# Altium footprint library passive.PcbLib: 20 footprints (part 1 of 2)
Each footprint in its own frame and in the unit in brackets; x right, y up, seen from the top. Pads: shape width x height; smd on the part's side, far side on the other; paste and mask are expansions set on the pad; w line width, h text height; cw(c..) or ccw(c..) is an arc to the next point about the centre after c.
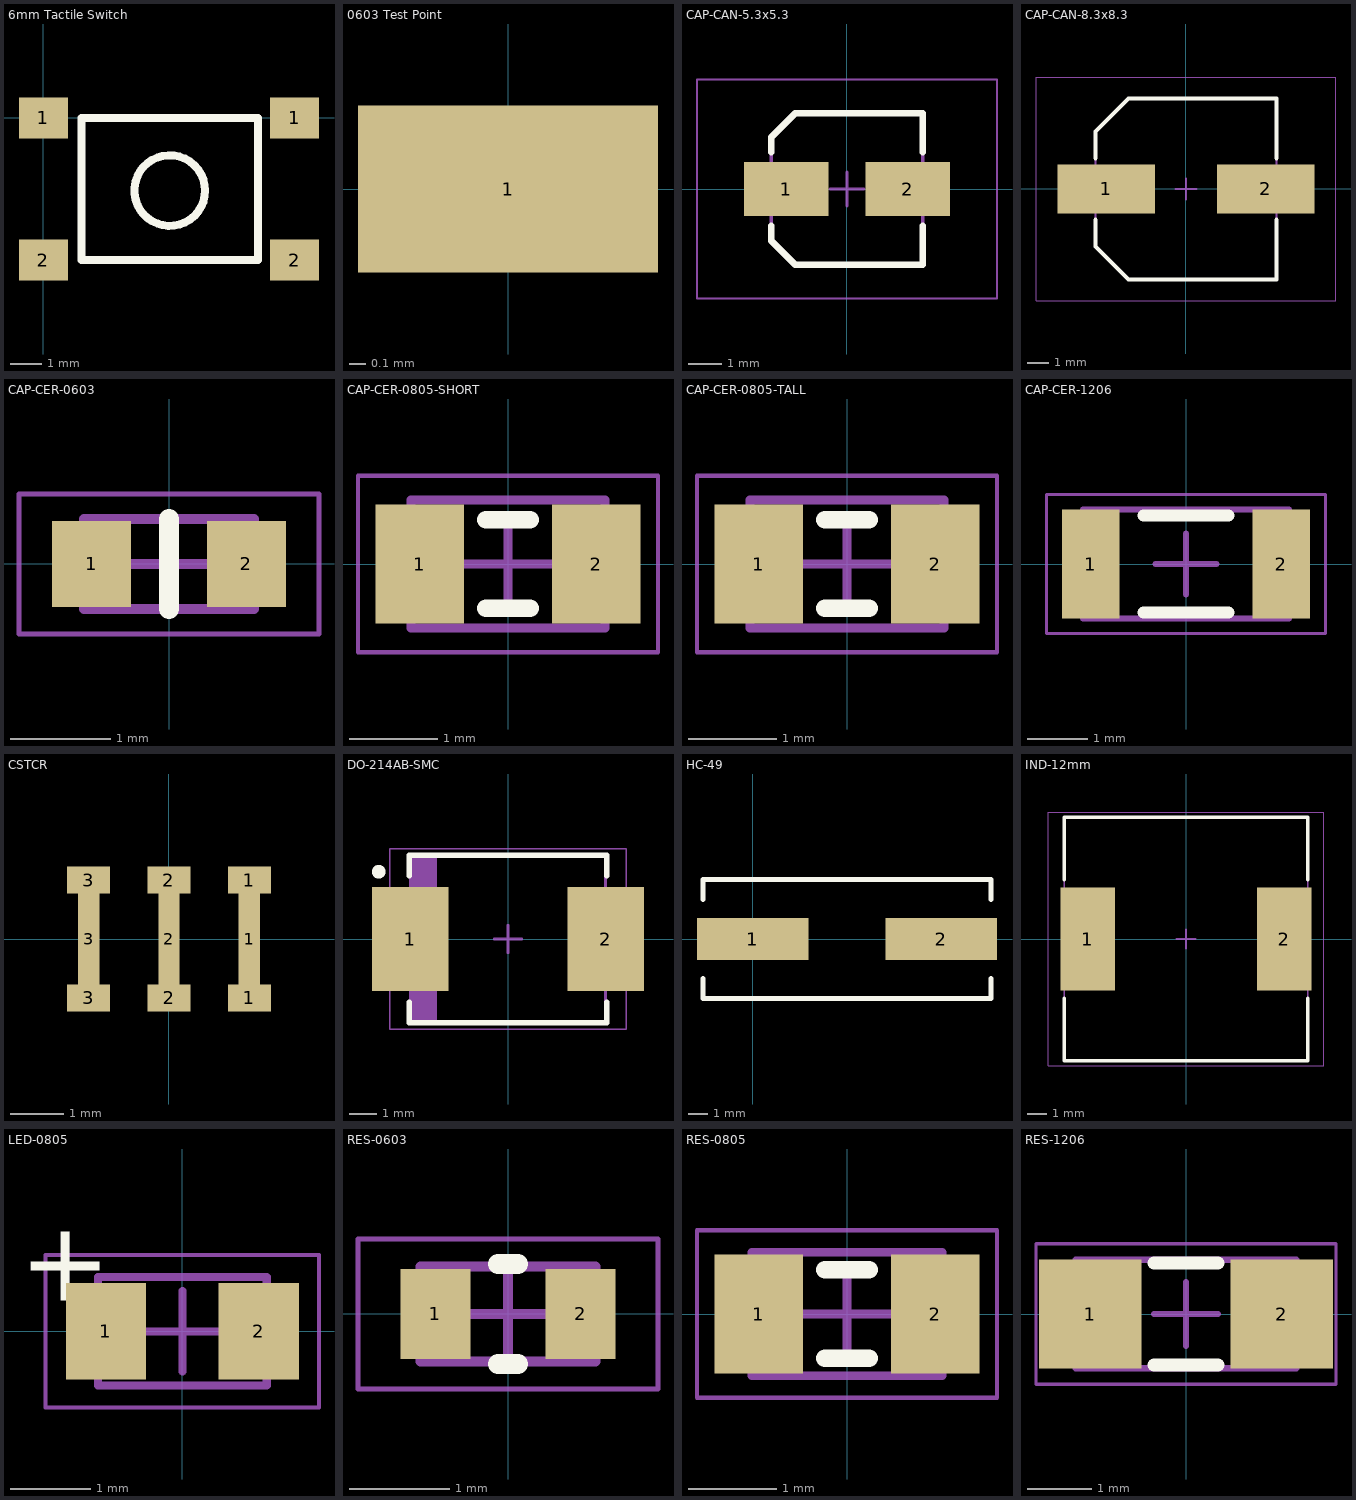
[diagram p0: the footprints below, top view; thin cyan lines are the x and y axes]

## 6mm Tactile Switch [mm]
height 4.3
pads (4):
  rect 1.55x1.3 smd: 1(0,0) 1(7.95,0) 2(0,-4.5) 2(7.95,-4.5)
Top Overlay:
  circle w0.254: c4,-2.3 r1.118
  lines w0.254: 1.2,-4.5 1.2,0 6.8,0 6.8,-4.5 1.2,-4.5
3D body "Tact Switch SMD 6x6mm.stp": height 4.3, standoff 0, extent -0.5,-5.4 8.5,0.8

## 0603 Test Point [mm]
pads (1):
  rect 1.8x1 smd: 1(0,0)
3D body "RCU (0603).stp": height 1.16, standoff 0, extent -0.8,-0.45 0.8,0.45

## CAP-CAN-5.3x5.3 [mm] "Aluminum Electrolytic Capacitor, Body 4.30x4.30x5.50mm, IPC Low Density"
height 5.5
pads (2):
  rect 2.5x1.6 smd: 1(-1.8,0) 2(1.8,0)
Top Overlay:
  lines w0.2: -2.25,-1.1 -2.25,-1.525 -1.525,-2.25 2.25,-2.25 2.25,-1.1 ; -2.25,1.1 -2.25,1.525 -1.525,2.25 2.25,2.25 2.25,1.1
Mechanical 13:
  lines w0.1: -2.25,-1.525 -1.525,-2.25 2.25,-2.25 2.25,2.25 -1.525,2.25 -2.25,1.525 -2.25,-1.525
Mechanical 15:
  lines w0.05: -4.45,-3.25 -4.45,3.25 4.45,3.25 4.45,-3.25 -4.45,-3.25
  lines w0.1: -0.5,0 0.5,0 ; 0,-0.5 0,0.5
3D body "CAPAE5043X55M.step": height 5.5, standoff 0, extent -2.475,-2.25 2.475,2.25

## CAP-CAN-8.3x8.3 [mm] "Aluminum Electrolytic Capacitor, Body 8.30x8.30x10.50mm, IPC Low Density"
height 10.5
pads (2):
  rect 4.6x2.3 smd: 1(-3.75,0) 2(3.75,0)
Top Overlay:
  lines w0.2: -4.25,-1.45 -4.25,-2.7 -2.7,-4.25 4.25,-4.25 4.25,-1.45 ; -4.25,1.45 -4.25,2.7 -2.7,4.25 4.25,4.25 4.25,1.45
Mechanical 13:
  lines w0.1: -4.25,-2.7 -4.25,2.7 -2.7,4.25 4.25,4.25 4.25,-4.25 -2.7,-4.25 -4.25,-2.7
Mechanical 15:
  lines w0.05: -7.05,-5.25 7.05,-5.25 7.05,5.25 -7.05,5.25 -7.05,-5.25
  lines w0.1: -0.5,0 0.5,0 ; 0,-0.5 0,0.5
3D body "CAPAE9983X105M.step": height 10.5, standoff 0, extent -4.95,-4.25 4.95,4.25

## CAP-CER-0603 [mm] "Chip Capacitor, 2-Leads, Body 1.60x0.80mm, IPC Medium Density"
height 0.9
pads (2):
  rect 0.79x0.86 smd: 1(-0.775,0) 2(0.775,0)
Top Overlay:
  lines w0.2: 0,-0.45 0,0.45
Mechanical 13:
  lines w0.1: -0.85,-0.45 0.85,-0.45 0.85,0.45 -0.85,0.45 -0.85,-0.45
Mechanical 15:
  lines w0.05: -1.5,-0.7 1.5,-0.7 1.5,0.7 -1.5,0.7 -1.5,-0.7
  lines w0.1: -0.45,0 0.45,0 ; 0,-0.45 0,0.45
3D body "CAPC1608X09N.step": height 0.9, standoff 0, extent -0.85,-0.45 0.85,0.45

## CAP-CER-0805-SHORT [mm] "Chip Capacitor, 2-Leads, Body 2.00x1.25mm, IPC Medium Density"
height 0.9
pads (2):
  rect 1x1.35 smd: 1(-1,0) 2(1,0)
Top Overlay:
  lines w0.2: -0.25,-0.5 0.25,-0.5 ; -0.25,0.5 0.25,0.5
Mechanical 13:
  lines w0.1: -1.1,-0.725 1.1,-0.725 1.1,0.725 -1.1,0.725 -1.1,-0.725
Mechanical 15:
  lines w0.05: -1.7,-1 1.7,-1 1.7,1 -1.7,1 -1.7,-1
  lines w0.1: -0.5,0 0.5,0 ; 0,-0.5 0,0.5
3D body "CAPC2012X09N.step": height 0.9, standoff 0, extent -1.1,-0.725 1.1,0.725

## CAP-CER-0805-TALL [mm] "Chip Capacitor, 2-Leads, Body 2.00x1.25mm, IPC Medium Density"
height 1.1
pads (2):
  rect 1x1.35 smd: 1(-1,0) 2(1,0)
Top Overlay:
  lines w0.2: -0.25,-0.5 0.25,-0.5 ; -0.25,0.5 0.25,0.5
Mechanical 13:
  lines w0.1: -1.1,-0.725 1.1,-0.725 1.1,0.725 -1.1,0.725 -1.1,-0.725
Mechanical 15:
  lines w0.05: -1.7,-1 1.7,-1 1.7,1 -1.7,1 -1.7,-1
  lines w0.1: -0.5,0 0.5,0 ; 0,-0.5 0,0.5
3D body "CAPC2012X11N.step": height 1.1, standoff 0, extent -1.1,-0.725 1.1,0.725

## CAP-CER-1206 [mm] "Chip Capacitor, 2-Leads, Body 3.20x1.60mm, IPC Medium Density"
height 1.8
pads (2):
  rect 0.95x1.8 smd: 1(-1.575,0) 2(1.575,0)
Top Overlay:
  lines w0.2: -0.7,-0.8 0.7,-0.8 ; -0.7,0.8 0.7,0.8
Mechanical 13:
  lines w0.1: -1.7,-0.9 -1.7,0.9 1.7,0.9 1.7,-0.9 -1.7,-0.9
Mechanical 15:
  lines w0.05: -2.3,-1.15 -2.3,1.15 2.3,1.15 2.3,-1.15 -2.3,-1.15
  lines w0.1: -0.5,0 0.5,0 ; 0,-0.5 0,0.5
3D body "CAPC3216X18N.step": height 1.8, standoff 0, extent -1.7,-0.9 1.7,0.9

## CSTCR [mm] "Ceramic Oscillator Built-In Capacitance"
height 1.15
pads (9):
  rect 0.8x0.5 smd: 1(1.5,-1.1) 1(1.5,1.1) 2(0,1.1) 2(0,-1.1) 3(-1.5,-1.1) 3(-1.5,1.1)
  rect 0.4x2.6 smd: 1(1.5,0) 2(0,0) 3(-1.5,0)
3D body "CSTCR4M19.step": height 1.15, standoff 0, extent -2.25,-1 2.25,1

## DO-214AB-SMC [mm] "Molded Diode, 2-Leads, Body 6.86x5.85mm, IPC Medium Density"
height 2.41
pads (2):
  rect 2.8x3.81 smd: 1(-3.57,0) 2(3.57,0)
Top Overlay:
  circle w0.25: c-4.72,2.455 r0.125
  lines w0.2: -3.6,-2.305 -3.6,-3.05 3.6,-3.05 3.6,-2.305 ; -3.6,2.305 -3.6,3.05 3.6,3.05 3.6,2.305
Mechanical 13:
  rectangle: -3.555,-3.05 -2.599,3.05
  lines w0.1: -3.555,-3.05 3.555,-3.05 3.555,3.05 -3.555,3.05 -3.555,-3.05
Mechanical 15:
  lines w0.05: -4.325,-3.3 4.325,-3.3 4.325,3.3 -4.325,3.3 -4.325,-3.3
  lines w0.1: -0.5,0 0.5,0 ; 0,-0.5 0,0.5
3D body "DIOM6958X24N.step": height 2.41, standoff 0, extent -3.775,-3.05 3.775,3.05

## HC-49 [mm] "Crystal Oscillator"
height 4.2
pads (2):
  rect 5.6x2.1 smd: 1(0,0) 2(9.5,0)
Top Overlay:
  lines w0.254: -2.5,-2 -2.5,-3 12,-3 12,-2 ; -2.5,2 -2.5,3 12,3 12,2
3D body "crystal-smd.SLDPRT": height 4.3, standoff 0, extent -1.924,-2.5 11.576,2.5

## IND-12mm [mm] "Precision Wire Wound Inductor, 2-Leads, Body 12.00x12.00mm, IPC Medium Density"
height 10
pads (2):
  rect 2.8x5.3 smd: 1(-5.05,0) 2(5.05,0)
Top Overlay:
  lines w0.2: -6.25,-3.05 -6.25,-6.25 6.25,-6.25 6.25,-3.05 ; -6.25,3.05 -6.25,6.25 6.25,6.25 6.25,3.05
Mechanical 13:
  lines w0.1: -6.25,-6.25 6.25,-6.25 6.25,6.25 -6.25,6.25 -6.25,-6.25
Mechanical 15:
  lines w0.05: -7.075,-6.5 7.075,-6.5 7.075,6.5 -7.075,6.5 -7.075,-6.5
  lines w0.1: -0.5,0 0.5,0 ; 0,-0.5 0,0.5
3D body "srr1210.stp": height 10, standoff 0, extent -6,-6 6,6

## LED-0805 [mm] "Chip Diode, 2-Leads, Body 2.00x1.25mm, IPC Medium Density"
height 0.9
pads (2):
  rect 1x1.2 smd: 1(-0.95,0) 2(0.95,0)
Top Overlay:
  text "+" at -2.032,0.381 h1
Mechanical 13:
  lines w0.1: -1.05,-0.675 -1.05,0.675 1.05,0.675 1.05,-0.675 -1.05,-0.675
Mechanical 15:
  lines w0.05: -1.7,-0.95 -1.7,0.95 1.7,0.95 1.7,-0.95 -1.7,-0.95
  lines w0.1: -0.5,0 0.5,0 ; 0,-0.5 0,0.5
3D body "0805_led_white.SLDPRT": height 0.8, standoff 0, extent -0.9,-0.625 0.9,0.625

## RES-0603 [mm] "Chip Resistor, 2-Leads, Body 1.60x0.85mm, IPC Medium Density"
height 0.55
pads (2):
  rect 0.7x0.9 smd: 1(-0.725,0) 2(0.725,0)
Top Overlay:
  lines w0.2: -0.1,-0.5 0.1,-0.5 ; -0.1,0.5 0.1,0.5
Mechanical 13:
  lines w0.1: -0.875,-0.475 -0.875,0.475 0.875,0.475 0.875,-0.475 -0.875,-0.475
Mechanical 15:
  lines w0.05: -1.5,-0.75 -1.5,0.75 1.5,0.75 1.5,-0.75 -1.5,-0.75
  lines w0.1: -0.475,0 0.475,0 ; 0,-0.475 0,0.475
3D body "RESC1608X06N.step": height 0.55, standoff 0, extent -0.875,-0.475 0.875,0.475

## RES-0805 [mm] "Chip Resistor, 2-Leads, Body 2.00x1.25mm, IPC Medium Density"
height 0.65
pads (2):
  rect 1x1.35 smd: 1(-1,0) 2(1,0)
Top Overlay:
  lines w0.2: -0.25,-0.5 0.25,-0.5 ; -0.25,0.5 0.25,0.5
Mechanical 13:
  lines w0.1: -1.075,-0.7 -1.075,0.7 1.075,0.7 1.075,-0.7 -1.075,-0.7
Mechanical 15:
  lines w0.05: -1.7,-0.95 -1.7,0.95 1.7,0.95 1.7,-0.95 -1.7,-0.95
  lines w0.1: -0.5,0 0.5,0 ; 0,-0.5 0,0.5
3D body "RESC2012X06N.step": height 0.65, standoff 0, extent -1.075,-0.7 1.075,0.7

## RES-1206 [mm] "Chip Resistor, 2-Leads, Body 3.20x1.60mm, IPC Medium Density"
height 0.8
pads (2):
  rect 1.6x1.7 smd: 1(-1.5,0) 2(1.5,0)
Top Overlay:
  lines w0.2: -0.5,-0.8 0.5,-0.8 ; -0.5,0.8 0.5,0.8
Mechanical 13:
  lines w0.1: -1.725,-0.85 -1.725,0.85 1.725,0.85 1.725,-0.85 -1.725,-0.85
Mechanical 15:
  lines w0.05: -2.35,-1.1 -2.35,1.1 2.35,1.1 2.35,-1.1 -2.35,-1.1
  lines w0.1: -0.5,0 0.5,0 ; 0,-0.5 0,0.5
3D body "RESC3216X08N.step": height 0.8, standoff 0, extent -1.725,-0.85 1.725,0.85